# EAGLE library part 68HC908QT4 (library motorola-hc08)
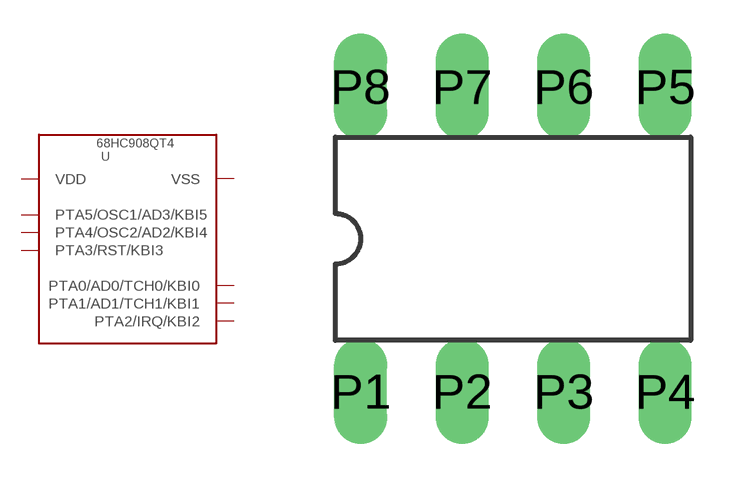
[diagram p0: symbol with the pads of DIL8; footprint DIL8]

Designator prefix -

## 68HC908QT4  [DIL8]
P1  VDD  pas
P2  PTA5/OSC1/AD3/KBI5
P3  PTA4/OSC2/AD2/KBI4  pas
P4  PTA3/RST/KBI3  pas
P5  PTA2/IRQ/KBI2  pas
P6  PTA1/AD1/TCH1/KBI1  pas
P7  PTA0/AD0/TCH0/KBI0  pas
P8  VSS  pas

## Footprint DIL8 (pad centres in mm)
drill 0.813 long: P1 -3.81,-3.81; P2 -1.27,-3.81; P3 1.27,-3.81; P4 3.81,-3.81; P5 3.81,3.81; P6 1.27,3.81; P7 -1.27,3.81; P8 -3.81,3.81